# EAGLE library part PROGRAMMER_LPT (library AdapterDIP8M16)
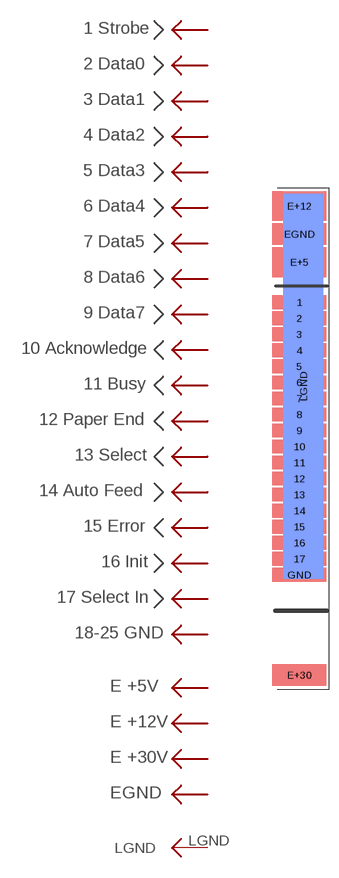
[diagram p0: symbol with the pads of PROGRAMMER_LPT_SLOT; footprint PROGRAMMER_LPT_SLOT]

Designator prefix -

## PROGRAMMER_LPT_SLOT  [PROGRAMMER_LPT_SLOT]
1  1  in
2  2  in
3  3  in
4  4  in
5  5  in
6  6  in
7  7  in
8  8  in
9  9  in
10  10  out
11  11  out
12  12  out
13  13  out
14  14  in
15  15  out
16  16  in
17  17  in
E+5  E+5
E+12  E+12
E+30  E+30
EGND  EGND
GND  GND
LGND  LGND

## Footprint PROGRAMMER_LPT_SLOT (pad centres in mm)
smd 8.54 x 2.18: 1 0,52.705; 2 0,50.165; 3 0,47.625; 4 0,45.085; 5 0,42.545; 6 0,40.005; 7 0,37.465; 8 0,34.925; 9 0,32.385; 10 0,29.845; 11 0,27.305; 12 0,24.765; 13 0,22.225; 14 0,19.685; 15 0,17.145; 16 0,14.605; 17 0,12.065; GND 0,9.525
smd 8.54 x 4.72: E+5 0,59.055; E+12 0,67.945
smd 8.54 x 3.45: E+30 0,-6.35; EGND 0,63.5
smd 6.35 x 60.96 bottom: LGND 0.635,39.37